# Altium footprint library Engenuics Blade PCB Library.PcbLib: 4 footprints
Each footprint in its own frame and in the unit in brackets; x right, y up, seen from the top. Pads: shape width x height; smd on the part's side, far side on the other; paste and mask are expansions set on the pad; w line width, h text height; cw(c..) or ccw(c..) is an arc to the next point about the centre after c.
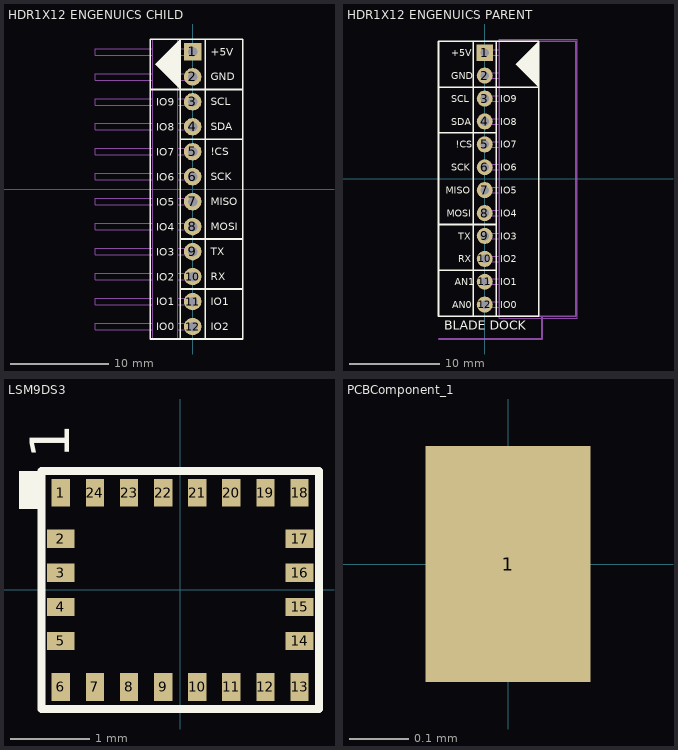
[diagram p0: the footprints below, top view; thin cyan lines are the x and y axes]

## HDR1X12 ENGENUICS CHILD [mil]
pads (12):
  rect 70x70 hole 38: 1(0,550)
  round 70 hole 38: 2(0,450) 3(0,350) 4(0,250) 5(0,150) 6(0,50) 7(0,-50) 8(0,-150) 9(0,-250) 10(0,-350) 11(0,-450) 12(0,-550)
Top Overlay:
  region: -49.21,601.18 -49.21,400.39 -150.59,500.79
  lines w7: -170,399.41 200,399.41 ; -50,-600 -50,600 ; -48.23,-400 200,-400 ; -48.23,-200 200,-200 ; -48.23,200 200,200 ; 50,-600 50,600 ; -170,-600 200,-600 200,600 -170,600 -170,-600
  text "TX" at 73,-264.76 h30
  text "RX" at 73,-364.76 h30
  text "!CS" at 73,136 h30
  text "IO1" at 73,-464.76 h30
  text "IO2" at 73,-564.76 h30
  text "SCK" at 73,35.24 h30
  text "GND" at 73,435.24 h30
  text "+5V" at 73,535.24 h30
  text "SCL" at 73,335.24 h30
  text "SDA" at 73,235.24 h30
  text "MOSI" at 73,-164.76 h30
  text "MISO" at 73,-64 h30
  text "IO0" at -145,-565.75 h30
  text "IO1" at -145,-465.75 h30
  text "IO2" at -145,-365.75 h30
  text "IO3" at -145,-265.75 h30
  text "IO4" at -145,-165.75 h30
  text "IO5" at -145,-65.75 h30
  text "IO6" at -145,34.25 h30
  text "IO7" at -145,134.25 h30
  text "IO8" at -145,234.25 h30
  text "IO9" at -145,334.25 h30
Bottom Overlay:
  region: -49.02,601.38 -49.02,400.59 -150.39,500.98
  lines w7: -170,399.61 200.2,399.61 ; -49.8,-599.8 -49.8,600.2 ; -48.03,-399.8 200.2,-399.8 ; -48.03,-199.8 200.2,-199.8 ; -48.03,200.2 200.2,200.2 ; 50.2,-599.8 50.2,600.2 ; -170,-599.8 -170,600.2 200.2,600.2 200.2,-599.8 -170,-599.8
  text "IO9" at -70,334.45 h30
  text "IO8" at -70,234.45 h30
  text "IO7" at -70,134.45 h30
  text "IO6" at -70,34.45 h30
  text "IO5" at -70,-65.55 h30
  text "IO4" at -70,-165.55 h30
  text "IO3" at -70,-265.55 h30
  text "IO2" at -70,-365.55 h30
  text "IO1" at -70,-465.55 h30
  text "IO0" at -70,-565.55 h30
  text "MISO" at 175,-65 h30
  text "MOSI" at 175,-164.57 h30
  text "SDA" at 175,235.43 h30
  text "SCL" at 175,335.43 h30
  text "+5V" at 175,535.43 h30
  text "GND" at 175,435.43 h30
  text "SCK" at 175,35.43 h30
  text "IO2" at 175,-564.57 h30
  text "IO1" at 175,-464.57 h30
  text "!CS" at 175,135.43 h30
  text "RX" at 175,-364.57 h30
  text "TX" at 175,-264.57 h30
Mechanical 7:
  lines w3.94: -13,-563 13,-563 13,-537 ; -13,-563 -13,-537 13,-537 ; -13,-563 -60,-563 -60,-537 13,-537 ; -13,-463 13,-463 13,-437 ; -13,-463 -13,-437 13,-437 ; -13,-463 -60,-463 -60,-437 13,-437 ; -13,-363 13,-363 13,-337 ; -13,-363 -13,-337 13,-337 ; -13,-363 -60,-363 -60,-337 13,-337 ; -13,-263 13,-263 13,-237 ; -13,-263 -13,-237 13,-237 ; -13,-263 -60,-263 -60,-237 13,-237 ; -13,-163 13,-163 13,-137 ; -13,-163 -13,-137 13,-137 ; -13,-163 -60,-163 -60,-137 13,-137 ; -13,-63 13,-63 13,-37 ; -13,-63 -13,-37 13,-37 ; -13,-63 -60,-63 -60,-37 13,-37 ; -13,37 13,37 13,63 ; -13,37 -13,63 13,63 ; -13,37 -60,37 -60,63 13,63 ; -13,137 13,137 13,163 ; -13,137 -13,163 13,163 ; -13,137 -60,137 -60,163 13,163 ; -13,237 13,237 13,263 ; -13,237 -13,263 13,263 ; -13,237 -60,237 -60,263 13,263 ; -13,337 13,337 13,363 ; -13,337 -13,363 13,363 ; -13,337 -60,337 -60,363 13,363 ; -13,437 13,437 13,463 ; -13,437 -13,463 13,463 ; -13,437 -60,437 -60,463 13,463 ; -13,537 -60,537 -60,563 13,563 ; -13,537 -13,563 13,563 ; -13,537 13,537 13,563 ; -390,-563 -390,-537 -160,-537 -160,-563 -390,-563 ; -390,-463 -390,-437 -160,-437 -160,-463 -390,-463 ; -390,-363 -390,-337 -160,-337 -160,-363 -390,-363 ; -390,-263 -390,-237 -160,-237 -160,-263 -390,-263 ; -390,-163 -390,-137 -160,-137 -160,-163 -390,-163 ; -390,-63 -390,-37 -160,-37 -160,-63 -390,-63 ; -390,37 -390,63 -160,63 -160,37 -390,37 ; -390,137 -390,163 -160,163 -160,137 -390,137 ; -390,237 -390,263 -160,263 -160,237 -390,237 ; -390,337 -390,363 -160,363 -160,337 -390,337 ; -390,437 -390,463 -160,463 -160,437 -390,437 ; -390,537 -160,537 -160,563 -390,563 -390,537 ; -160,-600 -160,600 -60,600 -60,-600 -160,-600
3D body: height 61, standoff -100, extent -13,-563 13,-537
3D body: height 61, standoff 35, extent -60,-563 -13,-537
3D body: height 61, standoff 35, extent -390,-563 -160,-537
3D body: height 61, standoff -100, extent -13,-463 13,-437
3D body: height 61, standoff 35, extent -60,-463 -13,-437
3D body: height 61, standoff 35, extent -390,-463 -160,-437
3D body: height 61, standoff -100, extent -13,-363 13,-337
3D body: height 61, standoff 35, extent -60,-363 -13,-337
3D body: height 61, standoff 35, extent -390,-363 -160,-337
3D body: height 61, standoff -100, extent -13,-263 13,-237
3D body: height 61, standoff 35, extent -60,-263 -13,-237
3D body: height 61, standoff 35, extent -390,-263 -160,-237
3D body: height 61, standoff -100, extent -13,-163 13,-137
3D body: height 61, standoff 35, extent -60,-163 -13,-137
3D body: height 61, standoff 35, extent -390,-163 -160,-137
3D body: height 61, standoff -100, extent -13,-63 13,-37
3D body: height 61, standoff 35, extent -60,-63 -13,-37
3D body: height 61, standoff 35, extent -390,-63 -160,-37
3D body: height 61, standoff -100, extent -13,37 13,63
3D body: height 61, standoff 35, extent -60,37 -13,63
3D body: height 61, standoff 35, extent -390,37 -160,63
3D body: height 61, standoff -100, extent -13,137 13,163
3D body: height 61, standoff 35, extent -60,137 -13,163
3D body: height 61, standoff 35, extent -390,137 -160,163
3D body: height 61, standoff -100, extent -13,237 13,263
3D body: height 61, standoff 35, extent -60,237 -13,263
3D body: height 61, standoff 35, extent -390,237 -160,263
3D body: height 61, standoff -100, extent -13,337 13,363
3D body: height 61, standoff 35, extent -60,337 -13,363
3D body: height 61, standoff 35, extent -390,337 -160,363
3D body: height 61, standoff -100, extent -13,437 13,463
3D body: height 61, standoff 35, extent -60,437 -13,463
3D body: height 61, standoff 35, extent -390,437 -160,463
3D body: height 61, standoff 35, extent -390,537 -160,563
3D body: height 61, standoff 35, extent -60,537 -13,563
3D body: height 61, standoff -100, extent -13,537 13,563
3D body: height 95, standoff 0, extent -160,-600 -60,600

## HDR1X12 ENGENUICS PARENT [mil]
pads (12):
  rect 70x70 hole 38: 1(0,550)
  round 70 hole 38: 2(0,450) 3(0,350) 4(0,250) 5(0,150) 6(0,50) 7(0,-50) 8(0,-150) 9(0,-250) 10(0,-350) 11(0,-450) 12(0,-550)
Top Overlay:
  region: 236.22,600.2 236.22,399.41 134.84,499.8
  lines w7: -201.77,-600 -201.77,600 ; -200,-600 236.22,-600 236.22,600.2 -200,600 ; -200,-400 50,-400 ; -200,-200 50,-200 ; -200,200 50,200 ; -200,400 236.22,400 ; -50,-600 -50,600 ; 50,-600 50,600
  lines w8: -200,-200 50,-200
  text "BLADE DOCK" at -177.17,-659.65 h40
  text "AN0" at -141.27,-565.75 h30
  text "AN1" at -131.27,-465.75 h30
  text "RX" at -116.28,-365.75 h30
  text "TX" at -116.28,-265.75 h30
  text "MOSI" at -166.26,-165.75 h30
  text "MISO" at -171.26,-65.75 h30
  text "SCK" at -146.27,34.25 h30
  text "!CS" at -126.27,134.25 h30
  text "SDA" at -146.27,234.25 h30
  text "SCL" at -146.27,334.25 h30
  text "GND" at -146.27,434.25 h30
  text "+5V" at -146.27,534.25 h30
  text "IO0" at 67.39,-565.75 h30
  text "IO1" at 67.39,-465.75 h30
  text "IO2" at 67.39,-365.75 h30
  text "IO3" at 67.39,-265.75 h30
  text "IO4" at 67.39,-165.75 h30
  text "IO5" at 67.39,-65.75 h30
  text "IO6" at 67.39,34.25 h30
  text "IO7" at 67.39,134.25 h30
  text "IO8" at 67.39,234.25 h30
  text "IO9" at 67.39,334.25 h30
Bottom Overlay:
  region: 236.22,600.2 236.22,399.41 134.84,499.8
  lines w7: -201.77,-600 -201.77,600 ; -200,-600 236.22,-600 236.22,600.2 -200,600 ; -200,-400 50,-400 ; -200,200 50,200 ; -200,400 236.22,400 ; -50,-600 -50,600 ; 50,-600 50,600
  lines w8: -200,-200 50,-200
  text "IO9" at 147.12,334.25 h30
  text "IO8" at 147.12,234.25 h30
  text "IO7" at 147.12,134.25 h30
  text "IO6" at 147.12,34.25 h30
  text "IO5" at 147.12,-65.75 h30
  text "IO4" at 146.65,-164.57 h30
  text "IO3" at 146.65,-265.94 h30
  text "IO2" at 147.12,-365.75 h30
  text "IO1" at 137.8,-465.75 h30
  text "IO0" at 146.65,-566.14 h30
  text "+5V" at -66.54,534.25 h30
  text "GND" at -66.54,434.25 h30
  text "SCL" at -66.54,334.25 h30
  text "SDA" at -66.54,234.25 h30
  text "!CS" at -66.93,133.66 h30
  text "SCK" at -66.54,34.25 h30
  text "MISO" at -65.94,-65.75 h30
  text "MOSI" at -69.88,-165.55 h30
  text "TX" at -64.11,-266.73 h30
  text "RX" at -66.93,-365.35 h30
  text "AN1" at -65.94,-465.75 h30
  text "AN0" at -66.93,-565.16 h30
Mechanical 5:
  lines w7: -200,-700 250,-700 250,-600 ; 62.99,-600 397.64,-600 397.64,600 62.99,600 62.99,-600
  text "BOARD EDGE" at 48,-691 h20
Mechanical 7:
  lines w1: -8,-550 8,-550 ; -8,-450 8,-450 ; -8,-350 8,-350 ; -8,-250 8,-250 ; -8,-150 8,-150 ; -8,-50 8,-50 ; -8,50 8,50 ; -8,150 8,150 ; -8,250 8,250 ; -8,350 8,350 ; -8,450 8,450 ; -8,550 8,550 ; 0,-562 0,-538 ; 0,-462 0,-438 ; 0,-362 0,-338 ; 0,-262 0,-238 ; 0,-162 0,-138 ; 0,-62 0,-38 ; 0,38 0,62 ; 0,138 0,162 ; 0,238 0,262 ; 0,338 0,362 ; 0,438 0,462 ; 0,538 0,562 ; 63.8,-562 8,-562 ; 63.8,-538 8,-538 ; 63.8,-462 8,-462 ; 63.8,-438 8,-438 ; 63.8,-362 8,-362 ; 63.8,-338 8,-338 ; 63.8,-262 8,-262 ; 63.8,-238 8,-238 ; 63.8,-162 8,-162 ; 63.8,-138 8,-138 ; 63.8,-62 8,-62 ; 63.8,-38 8,-38 ; 63.8,38 8,38 ; 63.8,62 8,62 ; 63.8,138 8,138 ; 63.8,162 8,162 ; 63.8,238 8,238 ; 63.8,262 8,262 ; 63.8,338 8,338 ; 63.8,362 8,362 ; 63.8,438 8,438 ; 63.8,462 8,462 ; 63.8,538 8,538 ; 63.8,562 8,562 ; 8,-562 8,-538 ; 8,-562 -8,-562 -8,-538 8,-538 ; 8,-462 -8,-462 -8,-438 8,-438 ; 8,-462 8,-438 ; 8,-362 -8,-362 -8,-338 8,-338 ; 8,-362 8,-338 ; 8,-262 -8,-262 -8,-238 8,-238 ; 8,-262 8,-238 ; 8,-162 -8,-162 -8,-138 8,-138 ; 8,-162 8,-138 ; 8,-62 -8,-62 -8,-38 8,-38 ; 8,-62 8,-38 ; 8,38 -8,38 -8,62 8,62 ; 8,38 8,62 ; 8,138 -8,138 -8,162 8,162 ; 8,138 8,162 ; 8,238 -8,238 -8,262 8,262 ; 8,238 8,262 ; 8,338 -8,338 -8,362 8,362 ; 8,338 8,362 ; 8,438 -8,438 -8,462 8,462 ; 8,438 8,462 ; 8,538 -8,538 -8,562 8,562 ; 8,538 8,562 ; 63.8,-610 404.8,-610 404.8,610 63.8,610 63.8,-610
3D body: height 108, standoff 0, extent 63.8,-610 404.8,610
3D body: height 66, standoff 42, extent 8.01,538.01 63.81,562.01
3D body: height 66, standoff 42, extent 8.01,438.01 63.81,462.01
3D body: height 66, standoff 42, extent 8.01,338.01 63.81,362.01
3D body: height 66, standoff 42, extent 8.01,238.01 63.81,262.01
3D body: height 66, standoff 42, extent 8.01,138.01 63.81,162.01
3D body: height 66, standoff 42, extent 8.01,38.01 63.81,62.01
3D body: height 66, standoff 42, extent 8.01,-61.99 63.81,-37.99
3D body: height 66, standoff 42, extent 8.01,-161.99 63.81,-137.99
3D body: height 66, standoff 42, extent 8.01,-261.99 63.81,-237.99
3D body: height 66, standoff 42, extent 8.01,-361.99 63.81,-337.99
3D body: height 66, standoff 42, extent 8.01,-461.99 63.81,-437.99
3D body: height 66, standoff 42, extent 8,-562 63.8,-538
3D body: height 66, standoff -132, extent -7.99,538.01 8.01,562.01
3D body: height 66, standoff -132, extent -7.99,438.01 8.01,462.01
3D body: height 66, standoff -132, extent -7.99,338.01 8.01,362.01
3D body: height 66, standoff -132, extent -7.99,238.01 8.01,262.01
3D body: height 66, standoff -132, extent -7.99,138.01 8.01,162.01
3D body: height 66, standoff -132, extent -7.99,38.01 8.01,62.01
3D body: height 66, standoff -132, extent -7.99,-61.99 8.01,-37.99
3D body: height 66, standoff -132, extent -7.99,-161.99 8.01,-137.99
3D body: height 66, standoff -132, extent -7.99,-261.99 8.01,-237.99
3D body: height 66, standoff -132, extent -7.99,-361.99 8.01,-337.99
3D body: height 66, standoff -132, extent -7.99,-461.99 8.01,-437.99
3D body: height 66, standoff -132, extent -8,-562 8,-538

## LSM9DS3 [mm]
height 1
pads (24):
  rect 0.23x0.35 smd: 1(-1.505,1.225) 6(-1.505,-1.225) 7(-1.075,-1.225) 8(-0.645,-1.225) 9(-0.215,-1.225) 10(0.215,-1.225) 11(0.645,-1.225) 12(1.075,-1.225) 13(1.505,-1.225) 18(1.505,1.225) 19(1.075,1.225) 20(0.645,1.225) 21(0.215,1.225) 22(-0.215,1.225) 23(-0.645,1.225) 24(-1.075,1.225)
  rect 0.35x0.23 smd: 2(-1.505,0.645) 3(-1.505,0.215) 4(-1.505,-0.215) 5(-1.505,-0.645) 14(1.505,-0.645) 15(1.505,-0.215) 16(1.505,0.215) 17(1.505,0.645)
Top Overlay:
  rectangle: -2.032,1.016 -1.75,1.5
  lines w0.1: -1.75,-1.5 1.75,-1.5 1.75,1.5 -1.75,1.5 -1.75,-1.5
  text "1" at -1.397,1.651 h0.5

## PCBComponent_1 [mm]
pads (1):
  rect 0.28x0.4 smd: 1(0,0)